# Altium schematic symbol library Supply_unit-RM.SCHLIB: 17 symbols
Pins are listed as number, name and electrical type; pins without a type are passive.

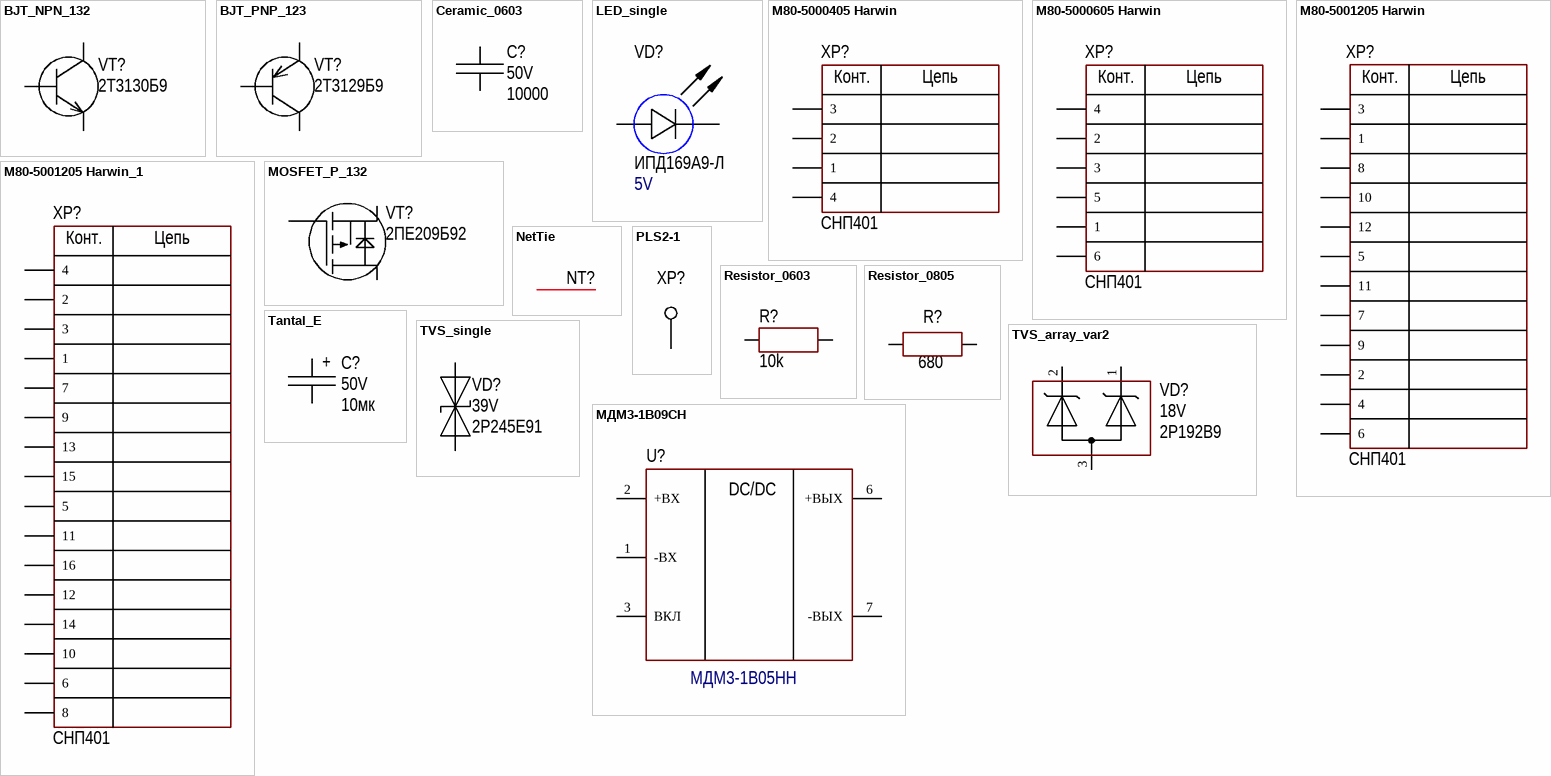
[diagram p0: symbols BJT_NPN_132 to МДМ3-1В09СН]

## BJT_NPN_132
designator VT?  PartNumber: 2Т3130Б9
Manufacturer: ООО НПК Далекс; ValueManufacturerPartNumber: NPN transistor, 30V, 100mA, , 300mW, 0.7V, 500, SOT-23 (КТ-46), -55...+125°C; TypeTransistor: NPN transistor; VoltageCE: 30V; CurrentCE: 100mA; VoltageSaturation: 0.7V; CurrentGain: 500; MaxPower: 300mW; MAX: 00123842; Package: SOT-23 (КТ-46); HelpURL: http://www.radioman-portal.ru/sprav/pp/transisters/sourse/2t3130.pdf; Temperature: -55...+125°C
footprint SOT23
footprint D2PAK
footprint DPAK
pins: 1 B, 2 E, 3 C

## BJT_PNP_123
designator VT?  PartNumber: 2Т3129Б9
ValueManufacturerPartNumber: NPN transistor, 40V, 100mA, , 200mW, 1.3V, 220, SOT-23 (КТ-46),; TypeTransistor: NPN transistor; VoltageCE: 40V; CurrentCE: 100mA; VoltageSaturation: 1.3V; CurrentGain: 220; MaxPower: 200mW; MAX: 00123135; Package: SOT-23 (КТ-46); HelpURL: https://eandc.ru/pdf/tranzistor/2t3129_kt3129.pdf
footprint SOT23
footprint D2PAK
footprint DPAK
pins: 1 B, 2 E, 3 C

## Ceramic_0603
designator C?  value 10000  Voltage: 50V
Manufacturer: Монолит; PartNumber: К10-84в-1608М-50В-10 нФ ±10%-Н20-N-A; ValueManufacturerPartNumber: Ceramic capacitor, 10000, Н20, ±10%, 50V, 0603 (1608M),; TypeCapacitor: Ceramic capacitor; Tolerance: ±10%; TypeDielectric: Н20; Package: 0603 (1608M); HelpURL: http://www.monolit.vitebsk.by/Files/K10-84.pdf
footprint CAP: 0603
footprint CAP: 0603P (small var)
pins: 1, 2

## LED_single
designator VD?  PartNumber: ИПД169А9-Л  CommentText: 5V
Manufacturer: Протон; ValueManufacturerPartNumber: LED, 20mA max, 2.1V typ, 1608, -55...+150°C; TypeDiode: LED; Current: 20mA max; VoltageDrop: 2.1V typ; Color: GREEN; Analog: MAX 00129484 КР-1608 Kingbright (pin-to-pin); Package: 1608; HelpURL: *; Temperature: -55...+150°C
footprint LED: 0402B
footprint LED: 0402G
footprint LED: 0402O
footprint LED: 0402R
footprint LED: 0402Y
footprint LED: 0603B
footprint LED: 0603G
footprint LED: 0603R
footprint LED: 0603Y
footprint LED: 0805B
footprint LED: 0805G
footprint LED: 0805R
footprint LED: 0805Y
footprint LED: 1206B
footprint LED: 1206G
footprint LED: 1206R
footprint LED: 1206W
footprint LED: 1206Y
footprint LED: 3mm_G (зеленый поднят на 4 мм над платой)
pins: 1 A, 2 C

## M80-5000405 Harwin
designator XP?  CommentText: СНП401
вилка на плату; Manufacturer: Электродеталь; ValueManufacturerPartNumber: Вилка, 4pin, 2mm, 120VAC, 1.5A; PartNumber: СНП401-4ВП21-3-1-1; VoltageMax: 120VAC; Pitch: 2mm; CurrentMax: 1.5A; Multichannel: 4pin; Analog: MAX 00138661; HelpURL: https://eu.mouser.com/ProductDetail/Harwin/M80-5000405?qs=yQtJ9TWM%2F1IJnFqYnM2R9Q%3D%3D; TypeConnector: Вилка
footprint CON: M80-5000405 (4 pin; Harwin без винтов)
pins: 1, 2, 3, 4
text: Конт.; Цепь

## M80-5000605 Harwin
designator XP?  CommentText: СНП401
вилка на плату; Manufacturer: Электроделать; ValueManufacturerPartNumber: Вилка, 6pin, 2mm, 120VAC, 1.5A; PartNumber: СНП401-6ВП21-3-1-1; VoltageMax: 120VAC; Pitch: 2mm; CurrentMax: 1.5A; Multichannel: 6pin; Analog: MAX 00126397 (M80-5000605 pin-to-pin); HelpURL: https://eu.mouser.com/ProductDetail/Harwin/M80-5000605?qs=yQtJ9TWM%2F1KaJIUUBEXorg%3D%3D; TypeConnector: Вилка
footprint CON: M80-5000605 (HR500)
pins: 1, 2, 3, 4, 5, 6
text: Конт.; Цепь

## M80-5001205 Harwin
designator XP?  CommentText: СНП401
вилка на плату; Manufacturer: Электродеталь; ValueManufacturerPartNumber: Вилка, 12pin, 2mm, 100V, 1.5A; PartNumber: СНП401-12ВП21-3-1-1; VoltageMax: 100V; Pitch: 2mm; CurrentMax: 1.5A; Multichannel: 12pin; Analog: MAX 00138662 (M80-5101205 pin-to-pin); HelpURL: https://eu.mouser.com/ProductDetail/Harwin/M80-5001205?qs=yQtJ9TWM%2F1IJJSuF%2FTVm0Q==; TypeConnector: Вилка
footprint CON: M80-5001205 (12pin Harwin)
pins: 1, 2, 3, 4, 5, 6, 7, 8, 9, 10, 11, 12
text: Конт.; Цепь

## M80-5001205 Harwin_1
designator XP?  CommentText: СНП401
вилка на плату; Manufacturer: Электродеталь; ValueManufacturerPartNumber: , 16pin, 2mm, 120VAC, 1.5A; PartNumber: СНП401-16ВП21-3-1-1; VoltageMax: 120VAC; Pitch: 2mm; CurrentMax: 1.5A; Multichannel: 16pin; Analog: MAX 00139241 [М80-5101605] (pin-to-pin); HelpURL: https://www.digikey.com/product-detail/en/harwin-inc/M80-5001605/952-2626-ND/5175716
footprint CON: M80-5001605 (16pin Harwin)
pins: 1, 2, 3, 4, 5, 6, 7, 8, 9, 10, 11, 12, 13, 14, 15, 16
text: Конт.; Цепь

## MOSFET_P_132
designator VT?  PartNumber: 2ПЕ209Б92
Manufacturer: Ангстрем; ValueManufacturerPartNumber: MOSFET P-channel transistor, 60V, 22A, 2.9nC, 2.5W, 40mOhm, 220pF, KT-89 (DPAK/TO-252), -55...+150°C; TypeTransistor: MOSFET P-channel transistor; VoltageDS: 60V; CurrentDS: 22A; RDS: 40mOhm; GateCharge: 2.9nC; InputCapacitor: 220pF; MaxPower: 2.5W; Analog: SUD50P06-15 (pin-to-pin); Package: KT-89 (DPAK/TO-252); HelpURL: https://www.vishay.com/docs/68940/sud50p06-15.pdf; Temperature: -55...+150°C
footprint TO220
footprint TO220(H)
footprint TO247 (3-Lead Plastic TO-247)
footprint TO247(H) (3-Lead Plastic TO-247)
footprint SOT23
footprint D2PAK
footprint DPAK
pins: 1 G, 2 S, 3 D

## NetTie
designator NT?  (net tie, no BOM)
footprint NetTie_0603
pins: 1, 2

## PLS2-1
designator XP?, comment AGND  (value not drawn)
Test probe; PartNumber: СНП377-1ВП21-1; Manufacturer: Электродеталь; Analog: PLS2-1; Tolerance: СНП377; MAX: 00130069; Шаг: 2mm; MAX: *; Publisher: TEN; Published: 2019; Type: Control pin; HelpURL: https://www.elektrodetal.com/catalog/snp377/
footprint CON: PLS2-1 (1 Position,pitch 2mm)
pins: 1
1 alternate drawing of the same symbol

## Resistor_0603
designator R?  value 10k
Manufacturer: ОАО Ресурс; PartNumber: Р1-12-0,1ум.-10~кОм ±5%-М ШКАБ.434110.002 ТУ; ValueManufacturerPartNumber: Resistor film, 10k, ±5%, 0603, 0.1W, -55...+125°C; TypeResistor: Resistor film; Power: 0.1W; Tolerance: ±5%; Analog: MAX 00133986 (1%); Package: 0603; HelpURL: https://aoresurs.com/catalog/chip_rezistory/rezistory-r1-12-kategoriya-kachestva-vp-/; Temperature: -55...+125°C
footprint RES: 0603P (small footprint)
pins: 1, 2

## Resistor_0805
designator R?  value 680
Manufacturer: Ресурс; PartNumber: Р1-12-0,125-680 Ом ±5%-М ШКАБ.434110.002 ТУ; ValueManufacturerPartNumber: Resistor film, 680, ±5%, 0805, 0.125W,; TypeResistor: Resistor film; Power: 0.125W; Tolerance: ±5%; MAX: 00133924; Package: 0805; HelpURL: https://aoresurs.com/catalog/chip_rezistory/rezistory-r1-12-kategoriya-kachestva-vp-/
footprint RES: 0805P (small footprint)
pins: 1, 2

## Tantal_E
designator C?  value 10мк  Polarity: +  Voltage: 50V
Manufacturer: Элеконд; PartNumber: К53-68 "E"-50 В-10мкф ±10%; ValueManufacturerPartNumber: Tantalum capacitor, 10мк, 50V, ±10%, 0.7 Ом, case E, -60...+125°C; Impedance: 0.7 Ом; Tolerance: ±10%; TypeCapacitor: Tantalum capacitor; MAX: 00145440; Analog: 00132739 (pin-to-pin на 15мкФ); Package: case E; HelpURL: https://eandc.ru/pdf/kondensator/k53-68.pdf; Temperature: -60...+125°C
footprint CAP: TANTAL-E
pins: 1 (power), 2 (power)

## TVS_array_var2
designator VD?  Voltage: 18V  PartNumber: 2Р192В9
Manufacturer: КРИП; TypeDiode: TVS diode; Current: 1A; Uогр.: 22.5V; Cap: 21pF; NOTE: указано для pin1-pin3; Analog: КР192А9 (ОТК) (pin-to-pin); Package: SOT-23; ValueManufacturerPartNumber: =TypeDiode+', '+Voltage+', '+Current+', '+VoltageDrop+', '+RecoveryTime+', '+Package+', '+Temperature; Temperature: -55...+150°C
footprint SOT23
pins: 1 K1, 2 K2, 3 A

## TVS_single
designator VD?  Voltage: 39V  PartNumber: 2Р245Е91
Manufacturer: НЗПП; TypeDiode: Zener diode; Current: 8A; VoltageDrop: 0.9V; Analog: SMA6J33A; Package: SMB(КД-42); HelpURL: http://www.nzpp.ru/product/; ValueManufacturerPartNumber: =TypeDiode+', '+Voltage+', '+Current+', '+VoltageDrop+', '+RecoveryTime+', '+Package+', '+Temperature
footprint DIODE: SMA
footprint DIODE: SMB
footprint DIODE: SMC
footprint DIODE: SOD80
footprint DIODE: SOD123
footprint DIODE: SOD123F
footprint DIODE: SOD123W
footprint DIODE: SOD323
footprint DIODE: SOD523
pins: 1 A, 2 C

## МДМ3-1В09СН
designator U?  CommentText: МДМ3-1В05НН
DC/DC converter; Manufacturer: Aedon; ValueManufacturerPartNumber: DC/DC converter, isolator, 5V 600mA, -40...+90°C, SIP-8; PartNumber: МДМ3-1В05НН АНЖЕ.436630.001ТУ; OutputType: isolator; OutputVoltage: 5V 600mA; VIN: 18-36V; Analog: MAX 00130811; HelpURL: https://www.aedon.ru/catalog/dcdc/models/96; Package: SIP-8; ComponentType: DC/DC converter; Temperature: -40...+90°C
footprint SIP-8
pins: 1 -ВХ (power), 2 +ВХ (power), 3 ВКЛ (power), 6 +ВЫХ (power), 7 -ВЫХ (power)
text: DC/DC